# Altium footprint library ConnectMedical.PcbLib: 44 footprints (part 3 of 3)
Each footprint in its own frame and in the unit in brackets; x right, y up, seen from the top. Pads: shape width x height; smd on the part's side, far side on the other; paste and mask are expansions set on the pad; w line width, h text height; cw(c..) or ccw(c..) is an arc to the next point about the centre after c.
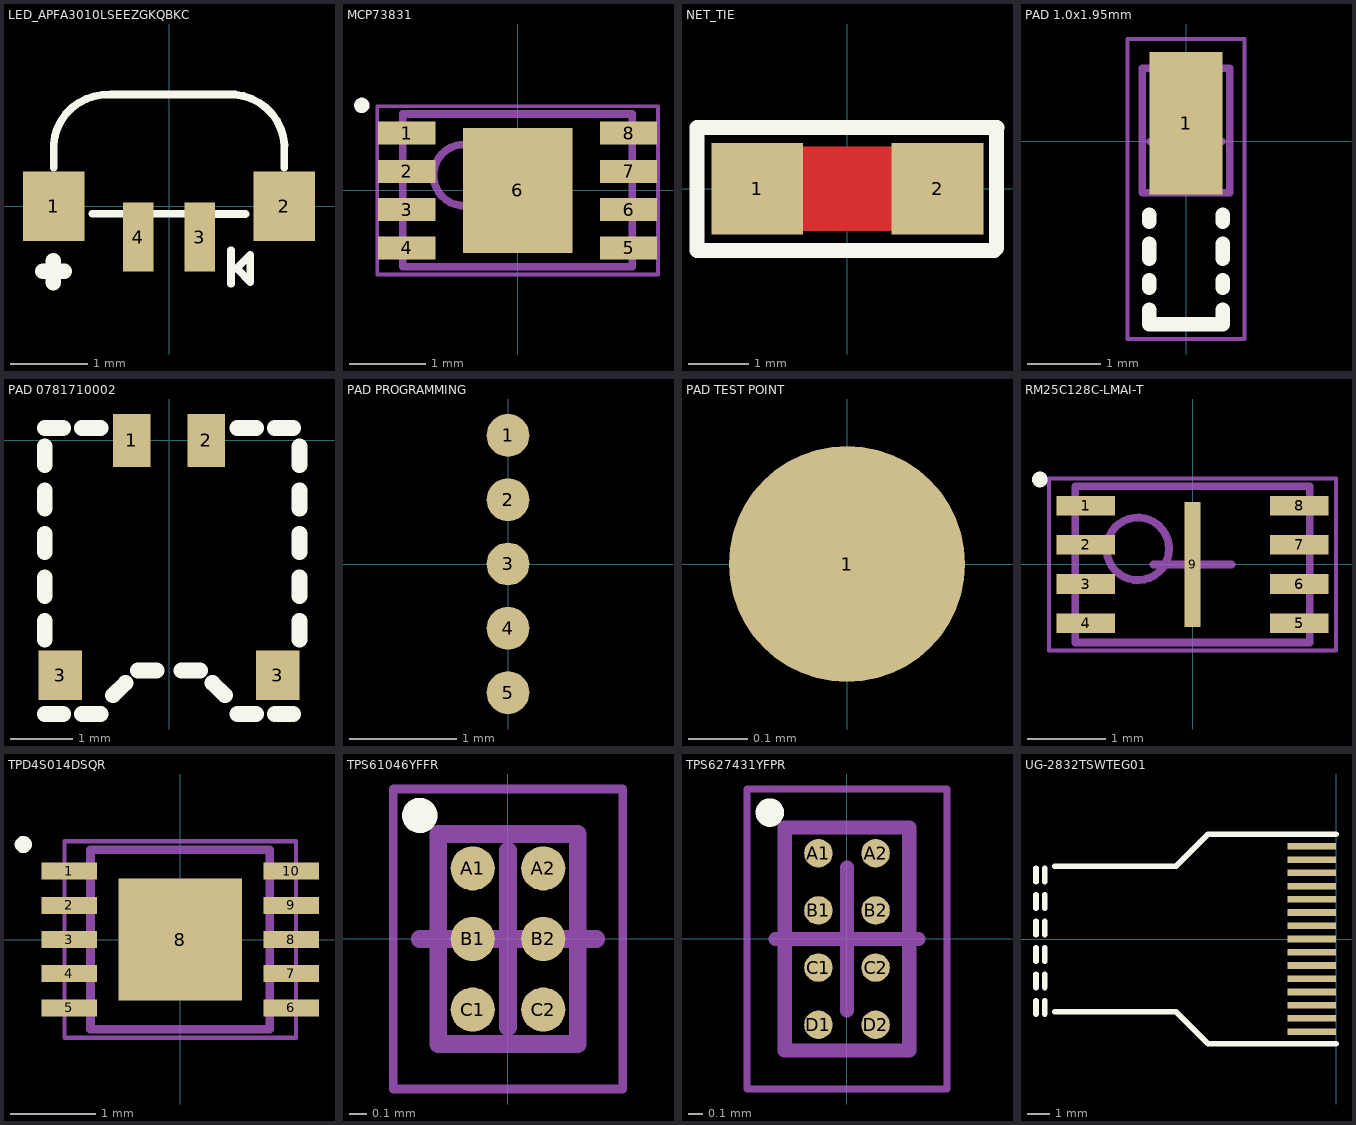
[diagram p2: the footprints below, top view; thin cyan lines are the x and y axes]

## LED_APFA3010LSEEZGKQBKC [mm] "LED_APFA3010LSEEZGKQBKC"
pads (4):
  rect 0.8x0.9 smd: 1(-1.5,0) 2(1.5,0)
  rect 0.4x0.9 smd: 3(0.4,-0.4) 4(-0.4,-0.4)
Top Overlay:
  lines w0.1: -1.5,0.5 -1.499,0.8 cw(c-0.802,0.753) -0.755,1.449 ; -0.997,-0.098 -0.604,-0.098 ; -0.753,1.453 0.749,1.453 cw(c0.796,0.748) 1.501,0.795 ; -0.205,-0.099 0.2,-0.099 ; 0.604,-0.101 0.994,-0.101 ; 0.806,-1.006 0.806,-0.572 ; 1.5,0.5 1.5,0.8 ; 0.879,-0.808 1.057,-0.987 1.057,-0.63 0.879,-0.808
  lines w0.2: -1.642,-0.845 -1.359,-0.845 ; -1.507,-0.993 -1.507,-0.71
3D body: height 1.1, standoff 0.9, extent -1.198,0.125 -0.999,0.325
3D body "APFA3010.STEP": height 1.01, standoff 0.01, extent -1.5,-0.047 1.5,1.456

## MCP73831 [mm] "IC CONTROLLER LI-ION 4.2V 8DFN"
height 1
pads (9):
  rect 0.75x0.3 smd: 1(-1.45,0.75) 2(-1.45,0.25) 3(-1.45,-0.25) 4(-1.45,-0.75) 5(1.45,-0.75) 6(1.45,-0.25) 7(1.45,0.25) 8(1.45,0.75)
  rect 1.43x1.63 smd: 6(0,0)
Top Overlay:
  circle w0.1: c-2.037,1.112 r0.05
Mechanical 13:
  circle w0.1: c-0.7,0.2 r0.4
  lines w0.1: -1.5,-1 1.5,-1 1.5,1 -1.5,1 -1.5,-1
Mechanical 15:
  lines w0.05: -1.835,-1.1 1.835,-1.1 1.835,1.1 -1.835,1.1 -1.835,-1.1
  lines w0.1: -0.5,0 0.5,0 ; 0,-0.5 0,0.5
3D body "MCP73831.step": height 1, standoff 0, extent -1.55,-1 1.55,1

## NET_TIE [mil]
pads (2):
  rect 60x60 smd paste-39.37 mask-43.39: 1(-59.06,0) 2(59.06,0)
Top Layer:
  rectangle: -31.5,-27.56 31.5,27.56
Top Overlay:
  lines w9.84: -98.42,-40.34 -98.42,39.9 97.98,39.9 97.54,39.46 97.54,-39.01 96.21,-40.34 -98.42,-40.34

## PAD 1.0x1.95mm [mm] "MICRO UNIVERSAL CONTACT Z 3.5MM"
height 0.6
pads (1):
  rect 1x1.95 smd: 1(0,0.25)
Top Overlay:
  lines w0.2: -0.5,-2.3 -0.5,-2.5 0.5,-2.5 0.5,-2.3 ; -0.5,-2 -0.5,-1.9 ; -0.5,-1.6 -0.5,-1.4 ; -0.5,-1.1 -0.5,-1 ; 0.5,-2 0.5,-1.9 ; 0.5,-1.6 0.5,-1.4 ; 0.5,-1.1 0.5,-1
Mechanical 13:
  lines w0.1: -0.6,-0.7 -0.6,1 0.6,1 0.6,-0.7 -0.6,-0.7
Mechanical 15:
  lines w0.05: -0.8,-2.7 -0.8,1.4 0.8,1.4 0.8,-2.7 -0.8,-2.7
  lines w0.1: -0.5,0 0.5,0 ; 0,-0.5 0,0.5
3D body "0180-004-DM-0085.step": height 3.5, standoff 0, extent -0.48,-2.59 0.48,1.2

## PAD 0781710002 [mm] "PAD 1.20MM WTB HEADER VERT 2POS"
pads (4):
  rect 0.6x0.85 smd: 1(-0.6,0) 2(0.6,0)
  rect 0.7x0.8 smd: 3(-1.75,-3.775) 3(1.75,-3.775)
Top Overlay:
  lines w0.254: -2,-4.4 -1.7,-4.4 ; -2,-3.2 -2,-2.9 ; -2,-2.5 -2,-2.2 ; -2,-1.8 -2,-1.5 ; -2,-1.1 -2,-0.8 ; -2,-0.4 -2,-0.1 ; -2,0.2 -1.7,0.2 ; -1.4,-4.4 -1.1,-4.4 ; -1.4,0.2 -1.1,0.2 ; -0.9,-4.1 -0.7,-3.9 ; -0.5,-3.7 -0.2,-3.7 ; 0.2,-3.7 0.5,-3.7 ; 0.7,-3.9 0.9,-4.1 ; 1.1,-4.4 1.4,-4.4 ; 1.1,0.2 1.4,0.2 ; 1.7,-4.4 2,-4.4 ; 1.7,0.2 2,0.2 ; 2.1,-3.2 2.1,-2.9 ; 2.1,-2.5 2.1,-2.2 ; 2.1,-1.8 2.1,-1.5 ; 2.1,-1.1 2.1,-0.8 ; 2.1,-0.4 2.1,-0.1

## PAD PROGRAMMING [mm] "Programming Points"
pads (5):
  round 0.4 smd paste-2: 1(0,1.2) 2(0,0.6) 3(0,0) 4(0,-0.6) 5(0,-1.2)

## PAD TEST POINT [mm] "Testing Point"
pads (1):
  round 0.4 smd paste-2: 1(0,0)

## RM25C128C-LMAI-T [mm] "IC EEPROM 128KBIT 10MHZ 8DFN"
height 0.6
pads (9):
  rect 0.75x0.25 smd: 1(-1.365,0.75) 2(-1.365,0.25) 3(-1.365,-0.25) 4(-1.365,-0.75) 5(1.365,-0.75) 6(1.365,-0.25) 7(1.365,0.25) 8(1.365,0.75)
  rect 0.2x1.6 smd: 9(0,0)
Top Overlay:
  circle w0.1: c-1.952,1.087 r0.05
Mechanical 13:
  circle w0.1: c-0.7,0.2 r0.4
  lines w0.1: -1.5,-1 1.5,-1 1.5,1 -1.5,1 -1.5,-1
Mechanical 15:
  lines w0.05: -1.835,-1.1 1.835,-1.1 1.835,1.1 -1.835,1.1 -1.835,-1.1
  lines w0.1: -0.5,0 0.5,0 ; 0,-0.5 0,0.5
3D body "RM25C128C-LMAI-T.step": height 0.6, standoff 0, extent -1.55,-1 1.55,1

## TPD4S014DSQR [mm] "IC USB PORT PROTECTION 10SON"
height 0.8
pads (11):
  rect 0.65x0.2 smd: 1(-1.3,0.8) 2(-1.3,0.4) 3(-1.3,0) 4(-1.3,-0.4) 5(-1.3,-0.8) 6(1.3,-0.8) 7(1.3,-0.4) 8(1.3,0) 9(1.3,0.4) 10(1.3,0.8)
  rect 1.45x1.43 smd: 8(0,0)
Top Overlay:
  circle w0.1: c-1.837,1.112 r0.05
Mechanical 13:
  circle w0.1: c-0.25,0.25 r0.4
  lines w0.1: -1.05,-1.05 -1.05,1.05 1.05,1.05 1.05,-1.05 -1.05,-1.05
Mechanical 15:
  lines w0.05: -1.355,-1.15 -1.355,1.15 1.355,1.15 1.355,-1.15 -1.355,-1.15
  lines w0.1: -0.5,0 0.5,0 ; 0,-0.5 0,0.5
3D body "TPD4S014DSQR.step": height 0.8, standoff 0, extent -1.1,-1.05 1.1,1.05

## TPS61046YFFR [mm] "IC LED DRVR RGLTR DIM"
height 0.63
pads (6):
  round 0.25 smd: A1(-0.2,0.4) A2(0.2,0.4) B1(-0.2,0) B2(0.2,0) C1(-0.2,-0.4) C2(0.2,-0.4)
Top Overlay:
  circle w0.1: c-0.5,0.7 r0.05
Mechanical 13:
  lines w0.1: -0.395,-0.595 0.395,-0.595 0.395,0.595 -0.395,0.595 -0.395,-0.595
Mechanical 15:
  lines w0.05: -0.65,-0.85 0.65,-0.85 0.65,0.85 -0.65,0.85 -0.65,-0.85
  lines w0.1: -0.5,0 0.5,0 ; 0,-0.5 0,0.5
3D body "TPS61046YFFR.step": height 0.63, standoff 0, extent -0.395,-0.595 0.395,0.595

## TPS627431YFPR [mm] "IC REG BCK PROG 0.4A SYNC 8DSBGA"
height 0.5
pads (8):
  round 0.2 smd: A1(-0.2,0.6) A2(0.2,0.6) B1(-0.2,0.2) B2(0.2,0.2) C1(-0.2,-0.2) C2(0.2,-0.2) D1(-0.2,-0.6) D2(0.2,-0.6)
Top Overlay:
  circle w0.1: c-0.54,0.885 r0.05
Mechanical 13:
  lines w0.1: -0.435,-0.78 -0.435,0.78 0.435,0.78 0.435,-0.78 -0.435,-0.78
Mechanical 15:
  lines w0.05: -0.7,-1.05 -0.7,1.05 0.7,1.05 0.7,-1.05 -0.7,-1.05
  lines w0.1: -0.5,0 0.5,0 ; 0,-0.5 0,0.5
3D body "TPS627431YFPR.step": height 0.5, standoff 0, extent -0.435,-0.78 0.435,0.78

## UG-2832TSWTEG01 [mm] "OLED Display"
pads (15):
  rect 2.2x0.3 smd: 1(-1.1,-4.2) 2(-1.1,-3.6) 3(-1.1,-3) 4(-1.1,-2.4) 5(-1.1,-1.8) 6(-1.1,-1.2) 7(-1.1,-0.6) 8(-1.1,0) 9(-1.1,0.6) 10(-1.1,1.2) 11(-1.1,1.8) 12(-1.1,2.4) 13(-1.1,3) 14(-1.1,3.6) 15(-1.1,4.2)
Top Overlay:
  lines w0.254: -13.6,-3.4 -13.6,-2.8 ; -13.6,-2.2 -13.6,-1.6 ; -13.6,-1 -13.6,-0.4 ; -13.6,0.2 -13.6,0.8 ; -13.6,1.4 -13.6,2 ; -13.6,2.6 -13.6,3.2 ; -13.2,-3.4 -13.2,-2.8 ; -13.2,-2.2 -13.2,-1.6 ; -13.2,-1 -13.2,-0.4 ; -13.2,0.2 -13.2,0.8 ; -13.2,1.4 -13.2,2 ; -13.2,2.6 -13.2,3.2 ; -12.75,-3.3 -7.25,-3.3 -5.8,-4.75 0,-4.75 ; -12.75,3.3 -7.25,3.3 -5.8,4.75 0,4.75